# Altium integrated library THUVIEN.IntLib: 23 symbols
Pins are listed as number, name and electrical type; pins without a type are passive.

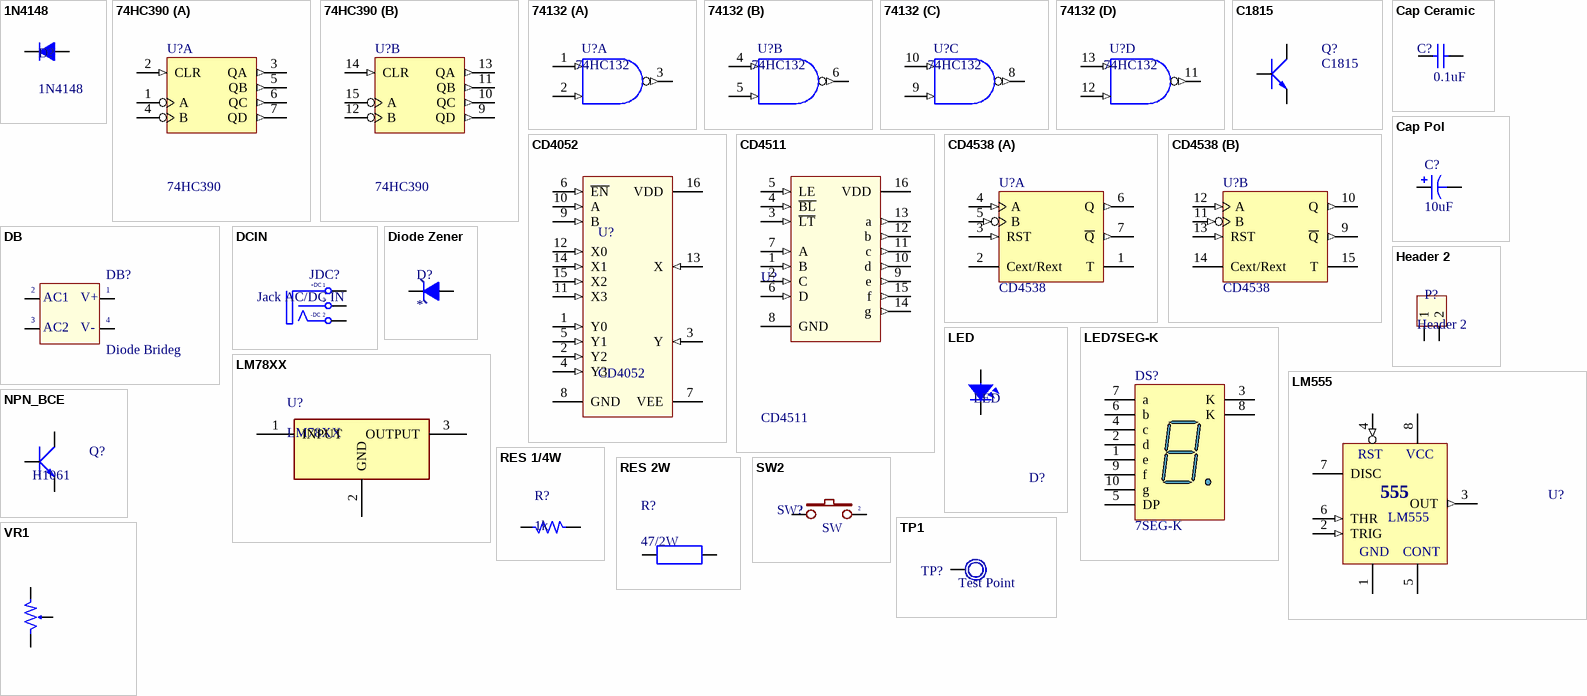
[diagram p0: symbols 1N4148 to VR1]

## 1N4148
designator D?
D0.5A; Value: 1N4148
footprint D0.5A (Diode muoi, W 80mil, L 300mil)
pins: 1 A, 2 K

## 74HC390
designator U?
Two independent 4-bit decade ripple counters; Value: 74LS76
footprint DIP16/W0.3 (16 PIN, W 300mil, Pin to pin 100mil)
pins on every part: 8 GND (power) hidden to GND, 16 VCC (power) hidden to VCC
part A pins: 1 A, 2 CLR (in), 3 QA (out), 4 B, 5 QB (out), 6 QC (out), 7 QD (out)
part B pins: 9 QD (out), 10 QC (out), 11 QB (out), 12 B, 13 QA (out), 14 CLR (in), 15 A

## 74132
designator U?, comment 74HC132
Quad 2-Input NAND Gate Trigger smitch; Value: 74LS132
footprint DIP14/W0.3 (14PIN, W 300mil, Pin to pin 100mil)
pins on every part: 7 GND (power) hidden to GND, 14 VCC (power) hidden to VCC
part A pins: 1 A (in), 2 B (in), 3 ~{O} (out)
part B pins: 4 A (in), 5 B (in), 6 ~{O} (out)
part C pins: 8 ~{O} (out), 9 B (in), 10 A (in)
part D pins: 11 ~{O} (out), 12 B (in), 13 A (in)

## C1815
designator Q?
NPN 600mW, ECB; Value: C1815
footprint QTO-92A (TO-92)
pins: 1 E, 2 C, 3 B

## Cap Ceramic
designator C?, comment value 0.1uF  (hidden comment: Capacitor Ceramic)
Capacitor; Published: 8-Jun-2000; LatestRevisionDate: 17-Jul-2002; LatestRevisionNote: Re-released for DXP Platform.; PackageReference: RAD-0.3; Publisher: Altium Limited
footprint Tu-pico (Tu gom mini)
pins: 1, 2

## Cap Pol
designator C?, comment 10uF
Polarized Capacitor (Axial); Published: 8-Jun-2000; LatestRevisionDate: 17-Jul-2002; LatestRevisionNote: Re-released for DXP Platform.; PackageReference: POLAR0.8; Publisher: Altium Limited
footprint C10mm
pins: 1, 2
1 alternate drawing of the same symbol

## CD4052
designator U?
Dual 4-channel analogue  multiplexer/demultiplexer; Value: DIP16; Value: CD4052
footprint DIP16/W0.3 (16 PIN, W 300mil, Pin to pin 100mil)
pins: 1 Y0 (in), 2 Y2 (in), 3 Y (in), 4 Y3 (in), 5 Y1 (in), 6 ~{EN} (in), 7 VEE (power), 8 GND (power), 9 B (in), 10 A (in), 11 X3 (in), 12 X0 (in), 13 X (in), 14 X1 (in), 15 X2 (in), 16 VDD (power)

## CD4511
designator U?
BCD-TO-7-SEGMENT LATCH DECODER DRIVERS; Value: CD4052; Value: DIP16
footprint DIP16/W0.3 (16 PIN, W 300mil, Pin to pin 100mil)
pins: 1 B (in), 2 C (in), 3 ~{LT} (in), 4 ~{BL} (in), 5 LE (in), 6 D (in), 7 A (in), 8 GND (power), 9 e (out), 10 d (out), 11 c (out), 12 b (out), 13 a (out), 14 g (out), 15 f (out), 16 VDD (power)

## CD4538
designator U?
Dual Precision Monostable; Value: 74LS123
footprint DIP16/W0.3 (16 PIN, W 300mil, Pin to pin 100mil)
pins on every part: 8 GND (power) hidden to GND, 16 VCC (power) hidden to VCC
part A pins: 1 T (power), 2 Cext/Rext, 3 RST (in), 4 A (in), 5 B (in), 6 Q (out), 7 ~{Q} (out)
part B pins: 9 ~{Q} (out), 10 Q (out), 11 B (in), 12 A (in), 13 RST (in), 14 Cext/Rext, 15 T (power)

## DB
designator DB?, comment Diode Brideg
Convert AC to DC voltage, 4 pin; Value: Cau 1A
footprint CAU 1A (CAU 1A DET)
pins: 1 +V OUT, 2 AC1, 3 AC2, 4 -V OUT
text: V+; V-

## DCIN
designator JDC?, comment Jack AC/DC IN
footprint DC-IN (Jac DC input)
pins: 1 T "Tip", 2 TN "Tip Normal (Break Contact)", 3 S (power) "Sleeve (Ground)"
text: +DC; -DC

## Diode Zener
designator D?
Diode  Zener
footprint D1A (Diode 1A, W 100mil, L 350mil)
pins: 1 A, 2 K

## Header 2
designator P?
Header 2 (Green); Value: Header 2
footprint HED2 (Header 2, 2 pin, hight 300mil, Pin to Pin 200, Colour Green)
pins: 1, 2

## LED
designator D?
LED Single colour Green and Red; Value: LED 3 ly Single Colour
footprint LED-3 (LED 2 PIN, 3ly Only colour)
pins: 1, 2

## LED7SEG-K
designator DS?, comment 7SEG-K
14.2 mm General Purpose Blue 7-Segment Display: CC, RH DP, Gray Surface; MinimumIntensity: 2020 ucd; Note: IF = 10 mA; Published: 8-Jun-2000; LatestRevisionDate: 17-Dec-2003; LatestRevisionNote: Schematic revised, PCB Footprint replaced.; DatasheetDocument: 24-Sep-2002; PackageDocument: 24-Sep-2002; PackageReference: H; Publisher: Altium Limited; Colour: Blue; ComponentLink1Description: Manufacturer Link; ComponentLink1URL: http://www.agilent.com/
footprint LED7SEG
pins: 1 e "Anode", 2 d "Anode", 3 K "Common Cathode", 4 c "Anode", 5 DP "Anode", 6 b "Anode", 7 a "Anode", 8 K "Common Cathode", 9 f "Anode", 10 g "Anode"

## LM78XX
designator U?
POSITIVE-VOLTAGE REGULATORS; Name: LM78XX
footprint TO-220H
pins: 1 INPUT, 2 GND, 3 OUTPUT

## LM555
designator U?
Timer; Value: LM555
footprint DIP8/W0.3 (8 PIN, W 300mil, Pin to pin 100mil)
pins: 1 GND (power), 2 TRIG (in), 3 OUT (out), 4 RST (in), 5 CONT, 6 THR (in), 7 DISC (oc), 8 VCC (power)
text: 555

## NPN_BCE
designator Q?, comment H1061
P 1W, BCE; Value: TIP41
footprint QTO-220 (TO-220 - 1-2-3)
pins: 1 B, 2 C, 3 E

## RES 1/4W
designator R?, comment 1k
Resistor 1/4W; Value: R1/4W - 1K
footprint DIEN TRO 1/4 W
pins: 1, 2

## RES 2W
designator R?, comment 47/2W
Resistor 2W; Value: R2W - 47
footprint R2W (R2W, 2 pin, 700mil)
pins: 1, 2

## SW2
designator SW?, comment SW
Switch button 2 pin; Value: SW chip 2 pin
footprint SW2 (SW button 2pin, 250x 250 mil)
pins: 1, 2

## TP1
designator TP?, comment Test Point
Value: Test Point
footprint TP1 (Test point)
pins: 1

## VR1
designator VR?, comment 10K
Var Resistor; Value: VR 10K
footprint VR1 (Variable Resistor)
pins: 1, 2, 3